# Altium integrated library WE-CBA_rev15a.intlib: 36 symbols
Pins are listed as number, name and electrical type; pins without a type are passive.

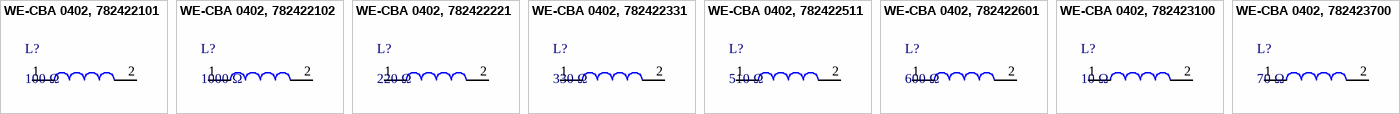
[diagram p0: symbols WE-CBA 0402, 782422101 to WE-CBA 0402, 782423700]

## WE-CBA 0402, 782422101
designator L?, comment 100 Ω
WE-CBA SMD EMI Suppression Ferrite Bead, Impedance = 100 Ω, Wide Band; partNo: 782422101; Manufacturer: Wurth Elektronik; Impedance: 100 Ω; ComponentLink1Description: Manufacturer; ComponentLink1URL: http://www.we-online.de; Created by: Baojun Chen; Created Date: Nov.2015; ComponentLink2Description: Datasheet; ComponentLink2URL: http://katalog.we-online.de/pbs/datasheet/782422101.pdf
footprint WE-CBA_0402_WB/HS (Wide Band / High Speed type)
pins: 1, 2

## WE-CBA 0402, 782422102
designator L?, comment 1000 Ω
WE-CBA SMD EMI Suppression Ferrite Bead, Impedance = 1000 Ω, Wide Band; partNo: 782422102; Manufacturer: Wurth Elektronik; Impedance: 1000 Ω; ComponentLink1Description: Manufacturer; ComponentLink1URL: http://www.we-online.de; Created by: Baojun Chen; Created Date: Nov.2015; ComponentLink2Description: Datasheet; ComponentLink2URL: http://katalog.we-online.de/pbs/datasheet/782422102.pdf
footprint WE-CBA_0402_WB/HS (Wide Band / High Speed type)
pins: 1, 2

## WE-CBA 0402, 782422221
designator L?, comment 220 Ω
WE-CBA SMD EMI Suppression Ferrite Bead, Impedance = 220 Ω, Wide Band; partNo: 782422221; Manufacturer: Wurth Elektronik; Impedance: 220 Ω; ComponentLink1Description: Manufacturer; ComponentLink1URL: http://www.we-online.de; Created by: Baojun Chen; Created Date: Nov.2015; ComponentLink2Description: Datasheet; ComponentLink2URL: http://katalog.we-online.de/pbs/datasheet/782422221.pdf
footprint WE-CBA_0402_WB/HS (Wide Band / High Speed type)
pins: 1, 2

## WE-CBA 0402, 782422331
designator L?, comment 330 Ω
WE-CBA SMD EMI Suppression Ferrite Bead, Impedance = 330 Ω, Wide Band; partNo: 782422331; Manufacturer: Wurth Elektronik; Impedance: 330 Ω; ComponentLink1Description: Manufacturer; ComponentLink1URL: http://www.we-online.de; Created by: Baojun Chen; Created Date: Nov.2015; ComponentLink2Description: Datasheet; ComponentLink2URL: http://katalog.we-online.de/pbs/datasheet/782422331.pdf
footprint WE-CBA_0402_WB/HS (Wide Band / High Speed type)
pins: 1, 2

## WE-CBA 0402, 782422511
designator L?, comment 510 Ω
WE-CBA SMD EMI Suppression Ferrite Bead, Impedance = 510 Ω, Wide Band; partNo: 782422511; Manufacturer: Wurth Elektronik; Impedance: 510 Ω; ComponentLink1Description: Manufacturer; ComponentLink1URL: http://www.we-online.de; Created by: Baojun Chen; Created Date: Nov.2015; ComponentLink2Description: Datasheet; ComponentLink2URL: http://katalog.we-online.de/pbs/datasheet/782422511.pdf
footprint WE-CBA_0402_WB/HS (Wide Band / High Speed type)
pins: 1, 2

## WE-CBA 0402, 782422601
designator L?, comment 600 Ω
WE-CBA SMD EMI Suppression Ferrite Bead, Impedance = 600 Ω, Wide Band; partNo: 782422601; Manufacturer: Wurth Elektronik; Impedance: 600 Ω; ComponentLink1Description: Manufacturer; ComponentLink1URL: http://www.we-online.de; Created by: Baojun Chen; Created Date: Nov.2015; ComponentLink2Description: Datasheet; ComponentLink2URL: http://katalog.we-online.de/pbs/datasheet/782422601.pdf
footprint WE-CBA_0402_WB/HS (Wide Band / High Speed type)
pins: 1, 2

## WE-CBA 0402, 782423100
designator L?, comment 10 Ω
WE-CBA SMD EMI Suppression Ferrite Bead, Impedance = 10 Ω, High Current; partNo: 782423100; Manufacturer: Wurth Elektronik; Impedance: 10 Ω; ComponentLink1Description: Manufacturer; ComponentLink1URL: http://www.we-online.de; Created by: Baojun Chen; Created Date: Nov.2015; ComponentLink2Description: Datasheet; ComponentLink2URL: http://katalog.we-online.de/pbs/datasheet/782423100.pdf
footprint WE-CBA_0402_HC (High Current type)
pins: 1, 2

## WE-CBA 0402, 782423700
designator L?, comment 70 Ω
WE-CBA SMD EMI Suppression Ferrite Bead, Impedance =70 Ω, High Current; partNo: 782423700; Manufacturer: Wurth Elektronik; Impedance: 70 Ω; ComponentLink1Description: Manufacturer; ComponentLink1URL: http://www.we-online.de; Created by: Baojun Chen; Created Date: Nov.2015; ComponentLink2Description: Datasheet; ComponentLink2URL: http://katalog.we-online.de/pbs/datasheet/782423700.pdf
footprint WE-CBA_0402_HC (High Current type)
pins: 1, 2


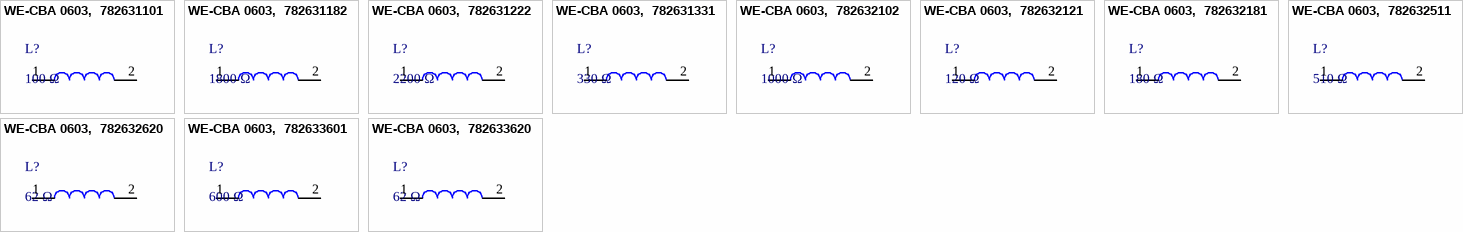
[diagram p1: symbols WE-CBA 0603,  782631101 to WE-CBA 0603,  782633620]

## WE-CBA 0603,  782631101
designator L?, comment 100 Ω
WE-CBA SMD EMI Suppression Ferrite Bead, Impedance = 100 Ω, High Speed; partNo: 782631101; Manufacturer: Wurth Elektronik; Impedance: 100 Ω; ComponentLink1Description: Manufacturer; ComponentLink1URL: http://www.we-online.de; Created by: Baojun Chen; Created Date: Nov.2015; ComponentLink2Description: Datasheet; ComponentLink2URL: http://katalog.we-online.de/pbs/datasheet/782631101.pdf
footprint WE-CBA_0603_WB/HS (Wide Band type / High Speed type)
pins: 1, 2

## WE-CBA 0603,  782631182
designator L?, comment 1800 Ω
WE-CBA SMD EMI Suppression Ferrite Bead, Impedance = 1800 Ω, High Speed; partNo: 782631182; Manufacturer: Wurth Elektronik; Impedance: 1800 Ω; ComponentLink1Description: Manufacturer; ComponentLink1URL: http://www.we-online.de; Created by: Baojun Chen; Created Date: Nov.2015; ComponentLink2Description: Datasheet; ComponentLink2URL: http://katalog.we-online.de/pbs/datasheet/782631182.pdf
footprint WE-CBA_0603_WB/HS (Wide Band type / High Speed type)
pins: 1, 2

## WE-CBA 0603,  782631222
designator L?, comment 2200 Ω
WE-CBA SMD EMI Suppression Ferrite Bead, Impedance = 2200 Ω, High Speed; partNo: 782631222; Manufacturer: Wurth Elektronik; Impedance: 2200 Ω; ComponentLink1Description: Manufacturer; ComponentLink1URL: http://www.we-online.de; Created by: Baojun Chen; Created Date: Nov.2015; ComponentLink2Description: Datasheet; ComponentLink2URL: http://katalog.we-online.de/pbs/datasheet/782631222.pdf
footprint WE-CBA_0603_WB/HS (Wide Band type / High Speed type)
pins: 1, 2

## WE-CBA 0603,  782631331
designator L?, comment 330 Ω
WE-CBA SMD EMI Suppression Ferrite Bead, Impedance = 330 Ω, High Speed; partNo: 782631331; Manufacturer: Wurth Elektronik; Impedance: 330 Ω; ComponentLink1Description: Manufacturer; ComponentLink1URL: http://www.we-online.de; Created by: Baojun Chen; Created Date: Nov.2015; ComponentLink2Description: Datasheet; ComponentLink2URL: http://katalog.we-online.de/pbs/datasheet/782631331.pdf
footprint WE-CBA_0603_WB/HS (Wide Band type / High Speed type)
pins: 1, 2

## WE-CBA 0603,  782632102
designator L?, comment 1000 Ω
WE-CBA SMD EMI Suppression Ferrite Bead, Impedance = 1000 Ω, Wide Band; partNo: 782632102; Manufacturer: Wurth Elektronik; Impedance: 1000 Ω; ComponentLink1Description: Manufacturer; ComponentLink1URL: http://www.we-online.de; Created by: Baojun Chen; Created Date: Nov.2015; ComponentLink2Description: Datasheet; ComponentLink2URL: http://katalog.we-online.de/pbs/datasheet/782632102.pdf
footprint WE-CBA_0603_WB/HS (Wide Band type / High Speed type)
pins: 1, 2

## WE-CBA 0603,  782632121
designator L?, comment 120 Ω
WE-CBA SMD EMI Suppression Ferrite Bead, Impedance = 120 Ω, Wide Band; partNo: 782632121; Manufacturer: Wurth Elektronik; Impedance: 120 Ω; ComponentLink1Description: Manufacturer; ComponentLink1URL: http://www.we-online.de; Created by: Baojun Chen; Created Date: Nov.2015; ComponentLink2Description: Datasheet; ComponentLink2URL: http://katalog.we-online.de/pbs/datasheet/782632121.pdf
footprint WE-CBA_0603_WB/HS (Wide Band type / High Speed type)
pins: 1, 2

## WE-CBA 0603,  782632181
designator L?, comment 180 Ω
WE-CBA SMD EMI Suppression Ferrite Bead, Impedance = 180 Ω, Wide Band; partNo: 782632181; Manufacturer: Wurth Elektronik; Impedance: 180 Ω; ComponentLink1Description: Manufacturer; ComponentLink1URL: http://www.we-online.de; Created by: Baojun Chen; Created Date: Nov.2015; ComponentLink2Description: Datasheet; ComponentLink2URL: http://katalog.we-online.de/pbs/datasheet/782632181.pdf
footprint WE-CBA_0603_WB/HS (Wide Band type / High Speed type)
pins: 1, 2

## WE-CBA 0603,  782632511
designator L?, comment 510 Ω
WE-CBA SMD EMI Suppression Ferrite Bead, Impedance = 510 Ω, Wide Band; partNo: 782632511; Manufacturer: Wurth Elektronik; Impedance: 510 Ω; ComponentLink1Description: Manufacturer; ComponentLink1URL: http://www.we-online.de; Created by: Baojun Chen; Created Date: Nov.2015; ComponentLink2Description: Datasheet; ComponentLink2URL: http://katalog.we-online.de/pbs/datasheet/782632511.pdf
footprint WE-CBA_0603_WB/HS (Wide Band type / High Speed type)
pins: 1, 2

## WE-CBA 0603,  782632620
designator L?, comment 62 Ω
WE-CBA SMD EMI Suppression Ferrite Bead, Impedance = 62 Ω, Wide Band; partNo: 782632620; Manufacturer: Wurth Elektronik; Impedance: 62 Ω; ComponentLink1Description: Manufacturer; ComponentLink1URL: http://www.we-online.de; Created by: Baojun Chen; Created Date: Nov.2015; ComponentLink2Description: Datasheet; ComponentLink2URL: http://katalog.we-online.de/pbs/datasheet/782632620.pdf
footprint WE-CBA_0603_WB/HS (Wide Band type / High Speed type)
pins: 1, 2

## WE-CBA 0603,  782633601
designator L?, comment 600 Ω
WE-CBA SMD EMI Suppression Ferrite Bead, Impedance = 600 Ω, High Current; partNo: 782633601; Manufacturer: Wurth Elektronik; Impedance: 600 Ω; ComponentLink1Description: Manufacturer; ComponentLink1URL: http://www.we-online.de; Created by: Baojun Chen; Created Date: Nov.2015; ComponentLink2Description: Datasheet; ComponentLink2URL: http://katalog.we-online.de/pbs/datasheet/782633601.pdf
footprint WE-CBA_0603_HC (High Current type)
pins: 1, 2

## WE-CBA 0603,  782633620
designator L?, comment 62 Ω
WE-CBA SMD EMI Suppression Ferrite Bead, Impedance = 62 Ω, High Current; partNo: 782633620; Manufacturer: Wurth Elektronik; Impedance: 62 Ω; ComponentLink1Description: Manufacturer; ComponentLink1URL: http://www.we-online.de; Created by: Baojun Chen; Created Date: Nov.2015; ComponentLink2Description: Datasheet; ComponentLink2URL: http://katalog.we-online.de/pbs/datasheet/782633620.pdf
footprint WE-CBA_0603_HC (High Current type)
pins: 1, 2


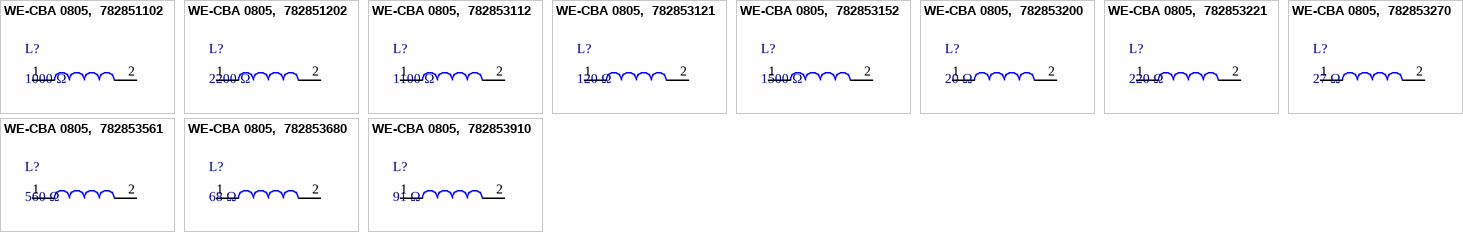
[diagram p2: symbols WE-CBA 0805,  782851102 to WE-CBA 0805,  782853910]

## WE-CBA 0805,  782851102
designator L?, comment 1000 Ω
WE-CBA SMD EMI Suppression Ferrite Bead, Impedance = 1000 Ω, High Speed; partNo: 782851102; Manufacturer: Wurth Elektronik; Impedance: 1000 Ω; ComponentLink1Description: Manufacturer; ComponentLink1URL: http://www.we-online.de; Created by: Baojun Chen; Created Date: Nov.2015; ComponentLink2Description: Datasheet; ComponentLink2URL: http://katalog.we-online.de/pbs/datasheet/782851102.pdf
footprint WE-CBA_0805_WB/HS (Wide Band type / High Speed type)
pins: 1, 2

## WE-CBA 0805,  782851202
designator L?, comment 2200 Ω
WE-CBA SMD EMI Suppression Ferrite Bead, Impedance = 2200 Ω, High Speed; partNo: 782851202; Manufacturer: Wurth Elektronik; Impedance: 2200 Ω; ComponentLink1Description: Manufacturer; ComponentLink1URL: http://www.we-online.de; Created by: Baojun Chen; Created Date: Nov.2015; ComponentLink2Description: Datasheet; ComponentLink2URL: http://katalog.we-online.de/pbs/datasheet/782851102.pdf
footprint WE-CBA_0805_WB/HS (Wide Band type / High Speed type)
pins: 1, 2

## WE-CBA 0805,  782853112
designator L?, comment 1100 Ω
WE-CBA SMD EMI Suppression Ferrite Bead, Impedance = 1100 Ω, High Current; partNo: 782853112; Manufacturer: Wurth Elektronik; Impedance: 1100 Ω; ComponentLink1Description: Manufacturer; ComponentLink1URL: http://www.we-online.de; Created by: Baojun Chen; Created Date: Nov.2015; ComponentLink2Description: Datasheet; ComponentLink2URL: http://katalog.we-online.de/pbs/datasheet/782853112.pdf
footprint WE-CBA_0805_HC (High Current type)
pins: 1, 2

## WE-CBA 0805,  782853121
designator L?, comment 120 Ω
WE-CBA SMD EMI Suppression Ferrite Bead, Impedance = 120 Ω, High Current; partNo: 782853121; Manufacturer: Wurth Elektronik; Impedance: 120 Ω; ComponentLink1Description: Manufacturer; ComponentLink1URL: http://www.we-online.de; Created by: Baojun Chen; Created Date: Nov.2015; ComponentLink2Description: Datasheet; ComponentLink2URL: http://katalog.we-online.de/pbs/datasheet/782853121.pdf
footprint WE-CBA_0805_HC (High Current type)
pins: 1, 2

## WE-CBA 0805,  782853152
designator L?, comment 1500 Ω
WE-CBA SMD EMI Suppression Ferrite Bead, Impedance = 1500 Ω, High Current; partNo: 782853152; Manufacturer: Wurth Elektronik; Impedance: 1500 Ω; ComponentLink1Description: Manufacturer; ComponentLink1URL: http://www.we-online.de; Created by: Baojun Chen; Created Date: Nov.2015; ComponentLink2Description: Datasheet; ComponentLink2URL: http://katalog.we-online.de/pbs/datasheet/782853152.pdf
footprint WE-CBA_0805_HC (High Current type)
pins: 1, 2

## WE-CBA 0805,  782853200
designator L?, comment 20 Ω
WE-CBA SMD EMI Suppression Ferrite Bead, Impedance = 20 Ω, High Current; partNo: 782853200; Manufacturer: Wurth Elektronik; Impedance: 20 Ω; ComponentLink1Description: Manufacturer; ComponentLink1URL: http://www.we-online.de; Created by: Baojun Chen; Created Date: Nov.2015; ComponentLink2Description: Datasheet; ComponentLink2URL: http://katalog.we-online.de/pbs/datasheet/782853200.pdf
footprint WE-CBA_0805_HC (High Current type)
pins: 1, 2

## WE-CBA 0805,  782853221
designator L?, comment 220 Ω
WE-CBA SMD EMI Suppression Ferrite Bead, Impedance = 220 Ω, High Current; partNo: 782853221; Manufacturer: Wurth Elektronik; Impedance: 220 Ω; ComponentLink1Description: Manufacturer; ComponentLink1URL: http://www.we-online.de; Created by: Baojun Chen; Created Date: Nov.2015; ComponentLink2Description: Datasheet; ComponentLink2URL: http://katalog.we-online.de/pbs/datasheet/782853221.pdf
footprint WE-CBA_0805_HC (High Current type)
pins: 1, 2

## WE-CBA 0805,  782853270
designator L?, comment 27 Ω
WE-CBA SMD EMI Suppression Ferrite Bead, Impedance = 27 Ω, High Current; partNo: 782853270; Manufacturer: Wurth Elektronik; Impedance: 27 Ω; ComponentLink1Description: Manufacturer; ComponentLink1URL: http://www.we-online.de; Created by: Baojun Chen; Created Date: Nov.2015; ComponentLink2Description: Datasheet; ComponentLink2URL: http://katalog.we-online.de/pbs/datasheet/782853270.pdf
footprint WE-CBA_0805_HC (High Current type)
pins: 1, 2

## WE-CBA 0805,  782853561
designator L?, comment 560 Ω
WE-CBA SMD EMI Suppression Ferrite Bead, Impedance = 560 Ω, High Current; partNo: 782853561; Manufacturer: Wurth Elektronik; Impedance: 560 Ω; ComponentLink1Description: Manufacturer; ComponentLink1URL: http://www.we-online.de; Created by: Baojun Chen; Created Date: Nov.2015; ComponentLink2Description: Datasheet; ComponentLink2URL: http://katalog.we-online.de/pbs/datasheet/782853561.pdf
footprint WE-CBA_0805_HC (High Current type)
pins: 1, 2

## WE-CBA 0805,  782853680
designator L?, comment 68 Ω
WE-CBA SMD EMI Suppression Ferrite Bead, Impedance = 68 Ω, High Current; partNo: 782853680; Manufacturer: Wurth Elektronik; Impedance: 68 Ω; ComponentLink1Description: Manufacturer; ComponentLink1URL: http://www.we-online.de; Created by: Baojun Chen; Created Date: Nov.2015; ComponentLink2Description: Datasheet; ComponentLink2URL: http://katalog.we-online.de/pbs/datasheet/782853680.pdf
footprint WE-CBA_0805_HC (High Current type)
pins: 1, 2

## WE-CBA 0805,  782853910
designator L?, comment 91 Ω
WE-CBA SMD EMI Suppression Ferrite Bead, Impedance = 91 Ω, High Current; partNo: 782853910; Manufacturer: Wurth Elektronik; Impedance: 91 Ω; ComponentLink1Description: Manufacturer; ComponentLink1URL: http://www.we-online.de; Created by: Baojun Chen; Created Date: Nov.2015; ComponentLink2Description: Datasheet; ComponentLink2URL: http://katalog.we-online.de/pbs/datasheet/782853910.pdf
footprint WE-CBA_0805_HC (High Current type)
pins: 1, 2


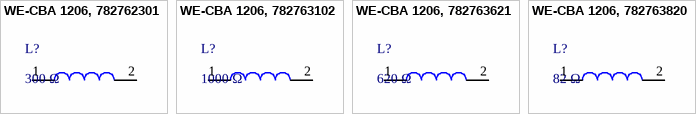
[diagram p3: symbols WE-CBA 1206, 782762301 to WE-CBA 1206, 782763820]

## WE-CBA 1206, 782762301
designator L?, comment 300 Ω
WE-CBA SMD EMI Suppression Ferrite Bead, Impedance = 300 Ω, Wide Band; partNo: 782762301; Manufacturer: Wurth Elektronik; Impedance: 300 Ω; ComponentLink1Description: Manufacturer; ComponentLink1URL: http://www.we-online.de; Created by: Baojun Chen; Created Date: Nov.2015; ComponentLink2Description: Datasheet; ComponentLink2URL: http://katalog.we-online.de/pbs/datasheet/782762301.pdf
footprint WE-CBA_1206_WB/HS (Wide Band type / High Speed type)
pins: 1, 2

## WE-CBA 1206, 782763102
designator L?, comment 1000 Ω
WE-CBA SMD EMI Suppression Ferrite Bead, Impedance = 1000 Ω, High Current; partNo: 782763102; Manufacturer: Wurth Elektronik; Impedance: 1000 Ω; ComponentLink1Description: Manufacturer; ComponentLink1URL: http://www.we-online.de; Created by: Baojun Chen; Created Date: Nov.2015; ComponentLink2Description: Datasheet; ComponentLink2URL: http://katalog.we-online.de/pbs/datasheet/782763102.pdf
footprint WE-CBA_1206_HC (High Current type)
pins: 1, 2

## WE-CBA 1206, 782763621
designator L?, comment 620 Ω
WE-CBA SMD EMI Suppression Ferrite Bead, Impedance = 620 Ω, High Current; partNo: 782763621; Manufacturer: Wurth Elektronik; Impedance: 620 Ω; ComponentLink1Description: Manufacturer; ComponentLink1URL: http://www.we-online.de; Created by: Baojun Chen; Created Date: Nov.2015; ComponentLink2Description: Datasheet; ComponentLink2URL: http://katalog.we-online.de/pbs/datasheet/782763621.pdf
footprint WE-CBA_1206_HC (High Current type)
pins: 1, 2

## WE-CBA 1206, 782763820
designator L?, comment 82 Ω
WE-CBA SMD EMI Suppression Ferrite Bead, Impedance = 82 Ω, High Current; partNo: 782763820; Manufacturer: Wurth Elektronik; Impedance: 82 Ω; ComponentLink1Description: Manufacturer; ComponentLink1URL: http://www.we-online.de; Created by: Baojun Chen; Created Date: Nov.2015; ComponentLink2Description: Datasheet; ComponentLink2URL: http://katalog.we-online.de/pbs/datasheet/782763820.pdf
footprint WE-CBA_1206_HC (High Current type)
pins: 1, 2


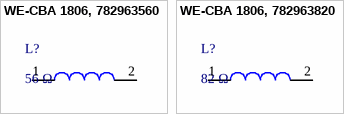
[diagram p4: symbols WE-CBA 1806, 782963560 to WE-CBA 1806, 782963820]

## WE-CBA 1806, 782963560
designator L?, comment 56 Ω
WE-CBA SMD EMI Suppression Ferrite Bead, Impedance = 56 Ω, High Current; partNo: 782963560; Manufacturer: Wurth Elektronik; Impedance: 56 Ω; ComponentLink1Description: Manufacturer; ComponentLink1URL: http://www.we-online.de; Created by: Baojun Chen; Created Date: Nov.2015; ComponentLink2Description: Datasheet; ComponentLink2URL: http://katalog.we-online.de/pbs/datasheet/782963560.pdf
footprint WE-CBA_1806_HC (High Current type)
pins: 1, 2

## WE-CBA 1806, 782963820
designator L?, comment 82 Ω
WE-CBA SMD EMI Suppression Ferrite Bead, Impedance = 82 Ω, High Current; partNo: 782963820; Manufacturer: Wurth Elektronik; Impedance: 82 Ω; ComponentLink1Description: Manufacturer; ComponentLink1URL: http://www.we-online.de; Created by: Baojun Chen; Created Date: Nov.2015; ComponentLink2Description: Datasheet; ComponentLink2URL: http://katalog.we-online.de/pbs/datasheet/782963820.pdf
footprint WE-CBA_1806_HC (High Current type)
pins: 1, 2